# Altium schematic symbol library M12_Lens_Mount.SchLib: 1 symbol
Pins are listed as number, name and electrical type; pins without a type are passive.

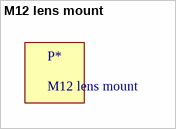
[diagram p0: symbol M12 lens mount]

## M12 lens mount
designator P*
footprint PCBComponent_1